# Altium schematic symbol library SCH - INTERFACE - CAN - MICROCHIP MCP2515 QFN.Schlib: 1 symbol
Pins are listed as number, name and electrical type; pins without a type are passive.

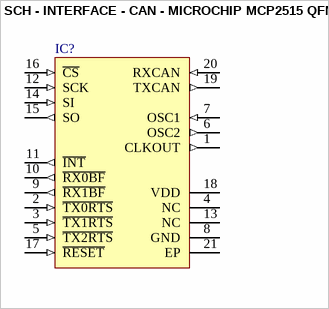
[diagram p0: symbol SCH - INTERFACE - CAN - MICROCHIP MCP2515 QFN]

## SCH - INTERFACE - CAN - MICROCHIP MCP2515 QFN
designator IC?
footprint QFN50P400X400X100_HS-21L
pins: 1 CLKOUT (out), 2 ~{TX0RTS} (in), 3 ~{TX1RTS} (in), 4 NC, 5 ~{TX2RTS} (in), 6 OSC2 (out), 7 OSC1 (in), 8 GND (power), 9 ~{RX1BF} (out), 10 ~{RX0BF} (out), 11 ~{INT} (out), 12 SCK (in), 13 NC, 14 SI (in), 15 SO (out), 16 ~{CS} (in), 17 ~{RESET} (in), 18 VDD (power), 19 TXCAN (out), 20 RXCAN (in), 21 EP (power)